# Altium integrated library Linear Technology Power Management System Supervisor, Monitor and Control.IntLib: 1611 symbols (part 22 of 100)
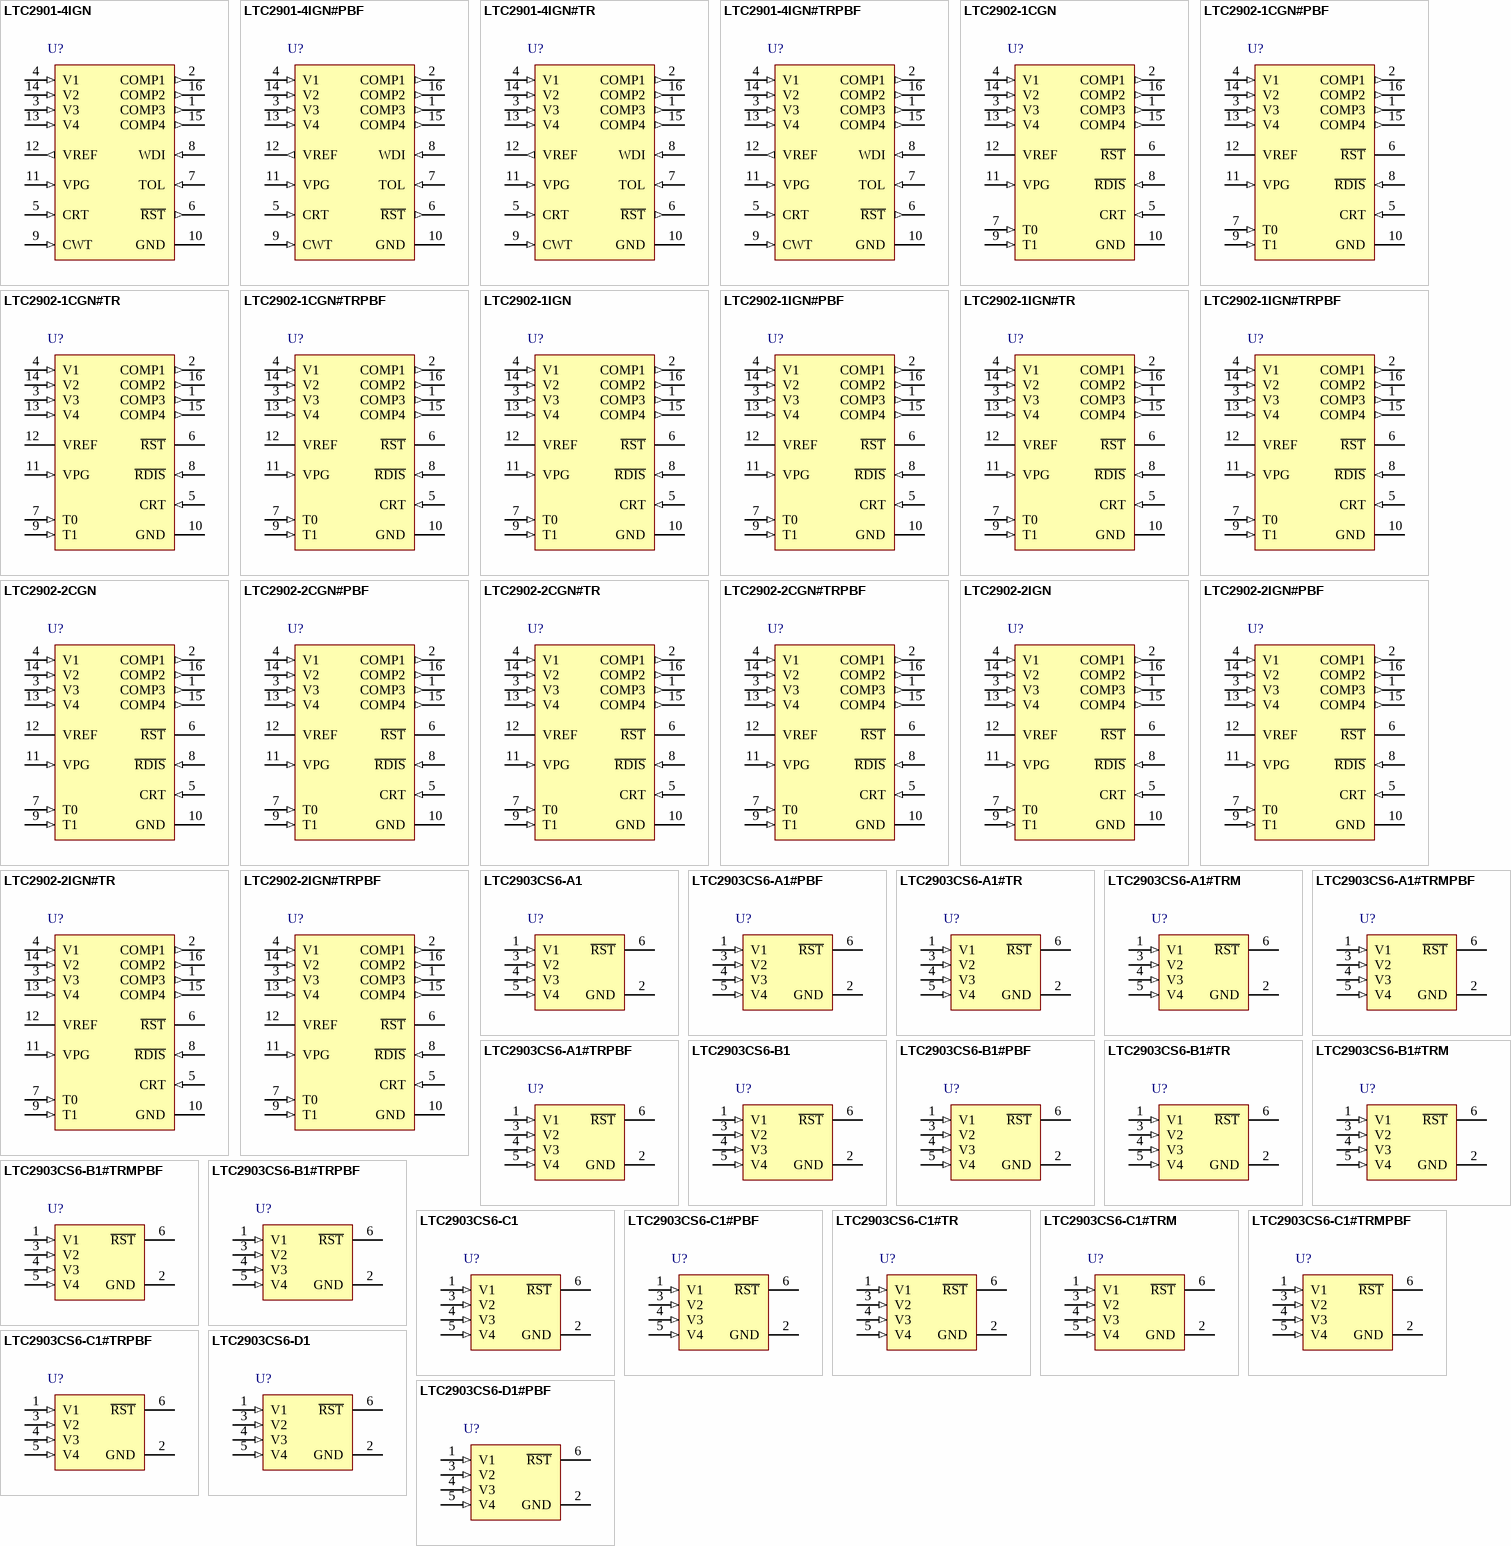
[diagram p66: symbols LTC2901-4IGN to LTC2903CS6-D1#PBF]

## LTC2903CS6-B1#TRPBF
designator U?
Precision Quad Supply Monitor, 6-pin SOT23 (S6-6), 0 to 70 degC, Pb-Free, Tape and Reel; Manufacturer: Linear Technology; PartNumber: LTC2903CS6-B1#TRPBF; Number of Supplies(#): 4; PackageVersion: Jun-10; PackageReference: S6-6; PackageDescription: 6-Pin Plastic TSOT-23, Body 2.9 x 1.63 mm, Pitch 0.95 mm; Supplier 1: Digi-Key; Supplier Part Number 1: LTC2903CS6-B1#TRPBF-ND; Packing: Tape and Reel; RoHS: TRUE; Mounting Technology: Surface Mount; Code_JEDEC: MO-193; ComponentLink1Description: Manufacturer URL; ComponentLink1URL: http://www.linear.com/; ComponentLink2Description: Datasheet; ComponentLink2URL: http://cds.linear.com/docs/en/datasheet/29031fa.pdf; ComponentLink3Description: Package Specification; ComponentLink3URL: http://cds.linear.com/docs/en/packaging/SOT_6_05-08-1636.pdf
footprint LT-S6-6-TSOT-23_N (SOT23, 6-Leads, Body 2.9x1.75mm, Pitch 0.95mm, IPC Medium Density)
footprint LT-S6-6-TSOT-23_L (SOT23, 6-Leads, Body 2.9x1.75mm, Pitch 0.95mm, IPC High Density)
footprint LT-S6-6-TSOT-23_M (SOT23, 6-Leads, Body 2.9x1.75mm, Pitch 0.95mm, IPC Low Density)
pins: 1 V1 (in) "Voltage Input 1. Internal VCC is generated from the greater voltage on the V1 and V2 inputs. VCC = V1 for options D1 and E1. Bypass this pin to ground with a 0.1uF (or greater) capacitor.", 2 GND (power) "Ground.", 3 V2 (in) "Voltage Input 2. Internal VCC is generated from the greater voltage on the V1 and V2 inputs. VCC = V1 for options D1 and E1. For option A1, B1, C1 bypass this pin to ground with a 0.1uF (or greater) capacitor. V2 is an (See Datasheet)", 4 V3 (in) "Voltage Input 3. This input assists the R\S\T\ pulldown circuitry below 1V (for options A1, B1 and C1 only). V3 is an adjustable input for options D1 and E1. See Table 1b for recommended ADJ resistor values.", 5 V4 (in) "Voltage Input 4. Table 1 lists the recommended ADJ resistor values for options A1, B1 and C1. See Table 1b for options D1 and E1.", 6 ~{RST} (oc) "Reset Logic Output. Pulls low when any voltage input is below reset threshold and held low for 200ms after all voltage inputs exceed threshold. The pin contains a weak pull-up to V2 (V1 for options D1 and E1). Use an (See Datasheet)"

## LTC2903CS6-C1
designator U?
Precision Quad Supply Monitor, 6-pin SOT23 (S6-6), 0 to 70 degC; Manufacturer: Linear Technology; PartNumber: LTC2903CS6-C1; Number of Supplies(#): 4; PackageVersion: Jun-10; PackageReference: S6-6; PackageDescription: 6-Pin Plastic TSOT-23, Body 2.9 x 1.63 mm, Pitch 0.95 mm; RoHS: FALSE; Mounting Technology: Surface Mount; Code_JEDEC: MO-193; ComponentLink1Description: Manufacturer URL; ComponentLink1URL: http://www.linear.com/; ComponentLink2Description: Datasheet; ComponentLink2URL: http://cds.linear.com/docs/en/datasheet/29031fa.pdf; ComponentLink3Description: Package Specification; ComponentLink3URL: http://cds.linear.com/docs/en/packaging/SOT_6_05-08-1636.pdf
footprint LT-S6-6-TSOT-23_N (SOT23, 6-Leads, Body 2.9x1.75mm, Pitch 0.95mm, IPC Medium Density)
footprint LT-S6-6-TSOT-23_L (SOT23, 6-Leads, Body 2.9x1.75mm, Pitch 0.95mm, IPC High Density)
footprint LT-S6-6-TSOT-23_M (SOT23, 6-Leads, Body 2.9x1.75mm, Pitch 0.95mm, IPC Low Density)
pins: 1 V1 (in) "Voltage Input 1. Internal VCC is generated from the greater voltage on the V1 and V2 inputs. VCC = V1 for options D1 and E1. Bypass this pin to ground with a 0.1uF (or greater) capacitor.", 2 GND (power) "Ground.", 3 V2 (in) "Voltage Input 2. Internal VCC is generated from the greater voltage on the V1 and V2 inputs. VCC = V1 for options D1 and E1. For option A1, B1, C1 bypass this pin to ground with a 0.1uF (or greater) capacitor. V2 is an (See Datasheet)", 4 V3 (in) "Voltage Input 3. This input assists the R\S\T\ pulldown circuitry below 1V (for options A1, B1 and C1 only). V3 is an adjustable input for options D1 and E1. See Table 1b for recommended ADJ resistor values.", 5 V4 (in) "Voltage Input 4. Table 1 lists the recommended ADJ resistor values for options A1, B1 and C1. See Table 1b for options D1 and E1.", 6 ~{RST} (oc) "Reset Logic Output. Pulls low when any voltage input is below reset threshold and held low for 200ms after all voltage inputs exceed threshold. The pin contains a weak pull-up to V2 (V1 for options D1 and E1). Use an (See Datasheet)"

## LTC2903CS6-C1#PBF
designator U?
Precision Quad Supply Monitor, 6-pin SOT23 (S6-6), 0 to 70 degC, Pb-Free; Manufacturer: Linear Technology; PartNumber: LTC2903CS6-C1#PBF; Number of Supplies(#): 4; PackageVersion: Jun-10; PackageReference: S6-6; PackageDescription: 6-Pin Plastic TSOT-23, Body 2.9 x 1.63 mm, Pitch 0.95 mm; RoHS: TRUE; Mounting Technology: Surface Mount; Code_JEDEC: MO-193; ComponentLink1Description: Manufacturer URL; ComponentLink1URL: http://www.linear.com/; ComponentLink2Description: Datasheet; ComponentLink2URL: http://cds.linear.com/docs/en/datasheet/29031fa.pdf; ComponentLink3Description: Package Specification; ComponentLink3URL: http://cds.linear.com/docs/en/packaging/SOT_6_05-08-1636.pdf
footprint LT-S6-6-TSOT-23_N (SOT23, 6-Leads, Body 2.9x1.75mm, Pitch 0.95mm, IPC Medium Density)
footprint LT-S6-6-TSOT-23_L (SOT23, 6-Leads, Body 2.9x1.75mm, Pitch 0.95mm, IPC High Density)
footprint LT-S6-6-TSOT-23_M (SOT23, 6-Leads, Body 2.9x1.75mm, Pitch 0.95mm, IPC Low Density)
pins: 1 V1 (in) "Voltage Input 1. Internal VCC is generated from the greater voltage on the V1 and V2 inputs. VCC = V1 for options D1 and E1. Bypass this pin to ground with a 0.1uF (or greater) capacitor.", 2 GND (power) "Ground.", 3 V2 (in) "Voltage Input 2. Internal VCC is generated from the greater voltage on the V1 and V2 inputs. VCC = V1 for options D1 and E1. For option A1, B1, C1 bypass this pin to ground with a 0.1uF (or greater) capacitor. V2 is an (See Datasheet)", 4 V3 (in) "Voltage Input 3. This input assists the R\S\T\ pulldown circuitry below 1V (for options A1, B1 and C1 only). V3 is an adjustable input for options D1 and E1. See Table 1b for recommended ADJ resistor values.", 5 V4 (in) "Voltage Input 4. Table 1 lists the recommended ADJ resistor values for options A1, B1 and C1. See Table 1b for options D1 and E1.", 6 ~{RST} (oc) "Reset Logic Output. Pulls low when any voltage input is below reset threshold and held low for 200ms after all voltage inputs exceed threshold. The pin contains a weak pull-up to V2 (V1 for options D1 and E1). Use an (See Datasheet)"

## LTC2903CS6-C1#TR
designator U?
Precision Quad Supply Monitor, 6-pin SOT23 (S6-6), 0 to 70 degC, Tape and Reel; Manufacturer: Linear Technology; PartNumber: LTC2903CS6-C1#TR; Number of Supplies(#): 4; PackageVersion: Jun-10; PackageReference: S6-6; PackageDescription: 6-Pin Plastic TSOT-23, Body 2.9 x 1.63 mm, Pitch 0.95 mm; Supplier 1: Digi-Key; Supplier Part Number 1: LTC2903CS6-C1#TR-ND; Packing: Tape and Reel; RoHS: FALSE; Mounting Technology: Surface Mount; Code_JEDEC: MO-193; ComponentLink1Description: Manufacturer URL; ComponentLink1URL: http://www.linear.com/; ComponentLink2Description: Datasheet; ComponentLink2URL: http://cds.linear.com/docs/en/datasheet/29031fa.pdf; ComponentLink3Description: Package Specification; ComponentLink3URL: http://cds.linear.com/docs/en/packaging/SOT_6_05-08-1636.pdf
footprint LT-S6-6-TSOT-23_N (SOT23, 6-Leads, Body 2.9x1.75mm, Pitch 0.95mm, IPC Medium Density)
footprint LT-S6-6-TSOT-23_L (SOT23, 6-Leads, Body 2.9x1.75mm, Pitch 0.95mm, IPC High Density)
footprint LT-S6-6-TSOT-23_M (SOT23, 6-Leads, Body 2.9x1.75mm, Pitch 0.95mm, IPC Low Density)
pins: 1 V1 (in) "Voltage Input 1. Internal VCC is generated from the greater voltage on the V1 and V2 inputs. VCC = V1 for options D1 and E1. Bypass this pin to ground with a 0.1uF (or greater) capacitor.", 2 GND (power) "Ground.", 3 V2 (in) "Voltage Input 2. Internal VCC is generated from the greater voltage on the V1 and V2 inputs. VCC = V1 for options D1 and E1. For option A1, B1, C1 bypass this pin to ground with a 0.1uF (or greater) capacitor. V2 is an (See Datasheet)", 4 V3 (in) "Voltage Input 3. This input assists the R\S\T\ pulldown circuitry below 1V (for options A1, B1 and C1 only). V3 is an adjustable input for options D1 and E1. See Table 1b for recommended ADJ resistor values.", 5 V4 (in) "Voltage Input 4. Table 1 lists the recommended ADJ resistor values for options A1, B1 and C1. See Table 1b for options D1 and E1.", 6 ~{RST} (oc) "Reset Logic Output. Pulls low when any voltage input is below reset threshold and held low for 200ms after all voltage inputs exceed threshold. The pin contains a weak pull-up to V2 (V1 for options D1 and E1). Use an (See Datasheet)"

## LTC2903CS6-C1#TRM
designator U?
Precision Quad Supply Monitor, 6-pin SOT23 (S6-6), 0 to 70 degC, Mini Tape and Reel; Manufacturer: Linear Technology; PartNumber: LTC2903CS6-C1#TRM; Number of Supplies(#): 4; PackageVersion: Jun-10; PackageReference: S6-6; PackageDescription: 6-Pin Plastic TSOT-23, Body 2.9 x 1.63 mm, Pitch 0.95 mm; Supplier 1: Digi-Key; Supplier Part Number 1: LTC2903CS6-C1#TRMTR-ND; Supplier 2: Digi-Key; Supplier Part Number 2: LTC2903CS6-C1#TRMCT-ND; Packing: Mini Tape and Reel; RoHS: FALSE; Mounting Technology: Surface Mount; Code_JEDEC: MO-193; ComponentLink1Description: Manufacturer URL; ComponentLink1URL: http://www.linear.com/; ComponentLink2Description: Datasheet; ComponentLink2URL: http://cds.linear.com/docs/en/datasheet/29031fa.pdf; ComponentLink3Description: Package Specification; ComponentLink3URL: http://cds.linear.com/docs/en/packaging/SOT_6_05-08-1636.pdf
footprint LT-S6-6-TSOT-23_N (SOT23, 6-Leads, Body 2.9x1.75mm, Pitch 0.95mm, IPC Medium Density)
footprint LT-S6-6-TSOT-23_L (SOT23, 6-Leads, Body 2.9x1.75mm, Pitch 0.95mm, IPC High Density)
footprint LT-S6-6-TSOT-23_M (SOT23, 6-Leads, Body 2.9x1.75mm, Pitch 0.95mm, IPC Low Density)
pins: 1 V1 (in) "Voltage Input 1. Internal VCC is generated from the greater voltage on the V1 and V2 inputs. VCC = V1 for options D1 and E1. Bypass this pin to ground with a 0.1uF (or greater) capacitor.", 2 GND (power) "Ground.", 3 V2 (in) "Voltage Input 2. Internal VCC is generated from the greater voltage on the V1 and V2 inputs. VCC = V1 for options D1 and E1. For option A1, B1, C1 bypass this pin to ground with a 0.1uF (or greater) capacitor. V2 is an (See Datasheet)", 4 V3 (in) "Voltage Input 3. This input assists the R\S\T\ pulldown circuitry below 1V (for options A1, B1 and C1 only). V3 is an adjustable input for options D1 and E1. See Table 1b for recommended ADJ resistor values.", 5 V4 (in) "Voltage Input 4. Table 1 lists the recommended ADJ resistor values for options A1, B1 and C1. See Table 1b for options D1 and E1.", 6 ~{RST} (oc) "Reset Logic Output. Pulls low when any voltage input is below reset threshold and held low for 200ms after all voltage inputs exceed threshold. The pin contains a weak pull-up to V2 (V1 for options D1 and E1). Use an (See Datasheet)"

## LTC2903CS6-C1#TRMPBF
designator U?
Precision Quad Supply Monitor, 6-pin SOT23 (S6-6), 0 to 70 degC, Pb-Free, Mini Tape and Reel; Manufacturer: Linear Technology; PartNumber: LTC2903CS6-C1#TRMPBF; Number of Supplies(#): 4; PackageVersion: Jun-10; PackageReference: S6-6; PackageDescription: 6-Pin Plastic TSOT-23, Body 2.9 x 1.63 mm, Pitch 0.95 mm; Supplier 1: Digi-Key; Supplier Part Number 1: LTC2903CS6-C1#TRMPBF-ND; Packing: Mini Tape and Reel; RoHS: TRUE; Mounting Technology: Surface Mount; Code_JEDEC: MO-193; ComponentLink1Description: Manufacturer URL; ComponentLink1URL: http://www.linear.com/; ComponentLink2Description: Datasheet; ComponentLink2URL: http://cds.linear.com/docs/en/datasheet/29031fa.pdf; ComponentLink3Description: Package Specification; ComponentLink3URL: http://cds.linear.com/docs/en/packaging/SOT_6_05-08-1636.pdf
footprint LT-S6-6-TSOT-23_N (SOT23, 6-Leads, Body 2.9x1.75mm, Pitch 0.95mm, IPC Medium Density)
footprint LT-S6-6-TSOT-23_L (SOT23, 6-Leads, Body 2.9x1.75mm, Pitch 0.95mm, IPC High Density)
footprint LT-S6-6-TSOT-23_M (SOT23, 6-Leads, Body 2.9x1.75mm, Pitch 0.95mm, IPC Low Density)
pins: 1 V1 (in) "Voltage Input 1. Internal VCC is generated from the greater voltage on the V1 and V2 inputs. VCC = V1 for options D1 and E1. Bypass this pin to ground with a 0.1uF (or greater) capacitor.", 2 GND (power) "Ground.", 3 V2 (in) "Voltage Input 2. Internal VCC is generated from the greater voltage on the V1 and V2 inputs. VCC = V1 for options D1 and E1. For option A1, B1, C1 bypass this pin to ground with a 0.1uF (or greater) capacitor. V2 is an (See Datasheet)", 4 V3 (in) "Voltage Input 3. This input assists the R\S\T\ pulldown circuitry below 1V (for options A1, B1 and C1 only). V3 is an adjustable input for options D1 and E1. See Table 1b for recommended ADJ resistor values.", 5 V4 (in) "Voltage Input 4. Table 1 lists the recommended ADJ resistor values for options A1, B1 and C1. See Table 1b for options D1 and E1.", 6 ~{RST} (oc) "Reset Logic Output. Pulls low when any voltage input is below reset threshold and held low for 200ms after all voltage inputs exceed threshold. The pin contains a weak pull-up to V2 (V1 for options D1 and E1). Use an (See Datasheet)"

## LTC2903CS6-C1#TRPBF
designator U?
Precision Quad Supply Monitor, 6-pin SOT23 (S6-6), 0 to 70 degC, Pb-Free, Tape and Reel; Manufacturer: Linear Technology; PartNumber: LTC2903CS6-C1#TRPBF; Number of Supplies(#): 4; PackageVersion: Jun-10; PackageReference: S6-6; PackageDescription: 6-Pin Plastic TSOT-23, Body 2.9 x 1.63 mm, Pitch 0.95 mm; Supplier 1: Digi-Key; Supplier Part Number 1: LTC2903CS6-C1#TRPBF-ND; Packing: Tape and Reel; RoHS: TRUE; Mounting Technology: Surface Mount; Code_JEDEC: MO-193; ComponentLink1Description: Manufacturer URL; ComponentLink1URL: http://www.linear.com/; ComponentLink2Description: Datasheet; ComponentLink2URL: http://cds.linear.com/docs/en/datasheet/29031fa.pdf; ComponentLink3Description: Package Specification; ComponentLink3URL: http://cds.linear.com/docs/en/packaging/SOT_6_05-08-1636.pdf
footprint LT-S6-6-TSOT-23_N (SOT23, 6-Leads, Body 2.9x1.75mm, Pitch 0.95mm, IPC Medium Density)
footprint LT-S6-6-TSOT-23_L (SOT23, 6-Leads, Body 2.9x1.75mm, Pitch 0.95mm, IPC High Density)
footprint LT-S6-6-TSOT-23_M (SOT23, 6-Leads, Body 2.9x1.75mm, Pitch 0.95mm, IPC Low Density)
pins: 1 V1 (in) "Voltage Input 1. Internal VCC is generated from the greater voltage on the V1 and V2 inputs. VCC = V1 for options D1 and E1. Bypass this pin to ground with a 0.1uF (or greater) capacitor.", 2 GND (power) "Ground.", 3 V2 (in) "Voltage Input 2. Internal VCC is generated from the greater voltage on the V1 and V2 inputs. VCC = V1 for options D1 and E1. For option A1, B1, C1 bypass this pin to ground with a 0.1uF (or greater) capacitor. V2 is an (See Datasheet)", 4 V3 (in) "Voltage Input 3. This input assists the R\S\T\ pulldown circuitry below 1V (for options A1, B1 and C1 only). V3 is an adjustable input for options D1 and E1. See Table 1b for recommended ADJ resistor values.", 5 V4 (in) "Voltage Input 4. Table 1 lists the recommended ADJ resistor values for options A1, B1 and C1. See Table 1b for options D1 and E1.", 6 ~{RST} (oc) "Reset Logic Output. Pulls low when any voltage input is below reset threshold and held low for 200ms after all voltage inputs exceed threshold. The pin contains a weak pull-up to V2 (V1 for options D1 and E1). Use an (See Datasheet)"

## LTC2903CS6-D1
designator U?
Precision Quad Supply Monitor, 6-pin SOT23 (S6-6), 0 to 70 degC; Manufacturer: Linear Technology; PartNumber: LTC2903CS6-D1; Number of Supplies(#): 4; PackageVersion: Jun-10; PackageReference: S6-6; PackageDescription: 6-Pin Plastic TSOT-23, Body 2.9 x 1.63 mm, Pitch 0.95 mm; RoHS: FALSE; Mounting Technology: Surface Mount; Code_JEDEC: MO-193; ComponentLink1Description: Manufacturer URL; ComponentLink1URL: http://www.linear.com/; ComponentLink2Description: Datasheet; ComponentLink2URL: http://cds.linear.com/docs/en/datasheet/29031fa.pdf; ComponentLink3Description: Package Specification; ComponentLink3URL: http://cds.linear.com/docs/en/packaging/SOT_6_05-08-1636.pdf
footprint LT-S6-6-TSOT-23_N (SOT23, 6-Leads, Body 2.9x1.75mm, Pitch 0.95mm, IPC Medium Density)
footprint LT-S6-6-TSOT-23_L (SOT23, 6-Leads, Body 2.9x1.75mm, Pitch 0.95mm, IPC High Density)
footprint LT-S6-6-TSOT-23_M (SOT23, 6-Leads, Body 2.9x1.75mm, Pitch 0.95mm, IPC Low Density)
pins: 1 V1 (in) "Voltage Input 1. Internal VCC is generated from the greater voltage on the V1 and V2 inputs. VCC = V1 for options D1 and E1. Bypass this pin to ground with a 0.1uF (or greater) capacitor.", 2 GND (power) "Ground.", 3 V2 (in) "Voltage Input 2. Internal VCC is generated from the greater voltage on the V1 and V2 inputs. VCC = V1 for options D1 and E1. For option A1, B1, C1 bypass this pin to ground with a 0.1uF (or greater) capacitor. V2 is an (See Datasheet)", 4 V3 (in) "Voltage Input 3. This input assists the R\S\T\ pulldown circuitry below 1V (for options A1, B1 and C1 only). V3 is an adjustable input for options D1 and E1. See Table 1b for recommended ADJ resistor values.", 5 V4 (in) "Voltage Input 4. Table 1 lists the recommended ADJ resistor values for options A1, B1 and C1. See Table 1b for options D1 and E1.", 6 ~{RST} (oc) "Reset Logic Output. Pulls low when any voltage input is below reset threshold and held low for 200ms after all voltage inputs exceed threshold. The pin contains a weak pull-up to V2 (V1 for options D1 and E1). Use an (See Datasheet)"

## LTC2903CS6-D1#PBF
designator U?
Precision Quad Supply Monitor, 6-pin SOT23 (S6-6), 0 to 70 degC, Pb-Free; Manufacturer: Linear Technology; PartNumber: LTC2903CS6-D1#PBF; Number of Supplies(#): 4; PackageVersion: Jun-10; PackageReference: S6-6; PackageDescription: 6-Pin Plastic TSOT-23, Body 2.9 x 1.63 mm, Pitch 0.95 mm; Supplier 1: Farnell; Supplier Part Number 1: 2308112; Supplier 2: Newark; Supplier Part Number 2: 78T2988; RoHS: TRUE; Mounting Technology: Surface Mount; Code_JEDEC: MO-193; ComponentLink1Description: Manufacturer URL; ComponentLink1URL: http://www.linear.com/; ComponentLink2Description: Datasheet; ComponentLink2URL: http://cds.linear.com/docs/en/datasheet/29031fa.pdf; ComponentLink3Description: Package Specification; ComponentLink3URL: http://cds.linear.com/docs/en/packaging/SOT_6_05-08-1636.pdf
footprint LT-S6-6-TSOT-23_N (SOT23, 6-Leads, Body 2.9x1.75mm, Pitch 0.95mm, IPC Medium Density)
footprint LT-S6-6-TSOT-23_L (SOT23, 6-Leads, Body 2.9x1.75mm, Pitch 0.95mm, IPC High Density)
footprint LT-S6-6-TSOT-23_M (SOT23, 6-Leads, Body 2.9x1.75mm, Pitch 0.95mm, IPC Low Density)
pins: 1 V1 (in) "Voltage Input 1. Internal VCC is generated from the greater voltage on the V1 and V2 inputs. VCC = V1 for options D1 and E1. Bypass this pin to ground with a 0.1uF (or greater) capacitor.", 2 GND (power) "Ground.", 3 V2 (in) "Voltage Input 2. Internal VCC is generated from the greater voltage on the V1 and V2 inputs. VCC = V1 for options D1 and E1. For option A1, B1, C1 bypass this pin to ground with a 0.1uF (or greater) capacitor. V2 is an (See Datasheet)", 4 V3 (in) "Voltage Input 3. This input assists the R\S\T\ pulldown circuitry below 1V (for options A1, B1 and C1 only). V3 is an adjustable input for options D1 and E1. See Table 1b for recommended ADJ resistor values.", 5 V4 (in) "Voltage Input 4. Table 1 lists the recommended ADJ resistor values for options A1, B1 and C1. See Table 1b for options D1 and E1.", 6 ~{RST} (oc) "Reset Logic Output. Pulls low when any voltage input is below reset threshold and held low for 200ms after all voltage inputs exceed threshold. The pin contains a weak pull-up to V2 (V1 for options D1 and E1). Use an (See Datasheet)"

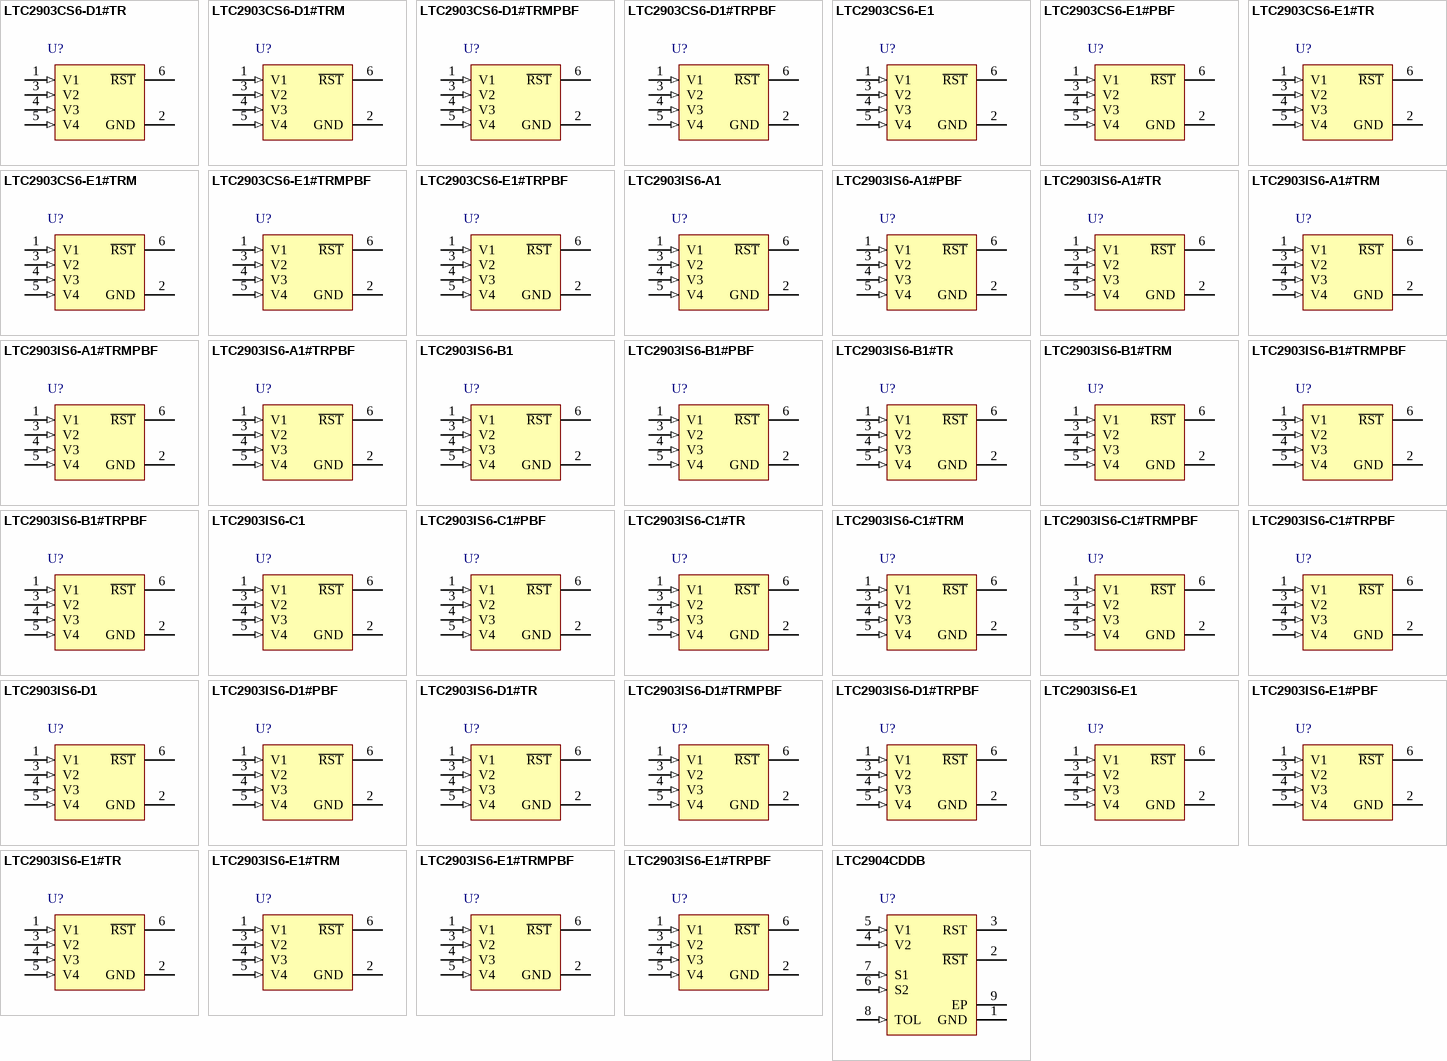
[diagram p11: symbols LTC2903CS6-D1#TR to LTC2904CDDB]

## LTC2903CS6-D1#TR
designator U?
Precision Quad Supply Monitor, 6-pin SOT23 (S6-6), 0 to 70 degC, Tape and Reel; Manufacturer: Linear Technology; PartNumber: LTC2903CS6-D1#TR; Number of Supplies(#): 4; PackageVersion: Jun-10; PackageReference: S6-6; PackageDescription: 6-Pin Plastic TSOT-23, Body 2.9 x 1.63 mm, Pitch 0.95 mm; Packing: Tape and Reel; RoHS: FALSE; Mounting Technology: Surface Mount; Code_JEDEC: MO-193; ComponentLink1Description: Manufacturer URL; ComponentLink1URL: http://www.linear.com/; ComponentLink2Description: Datasheet; ComponentLink2URL: http://cds.linear.com/docs/en/datasheet/29031fa.pdf; ComponentLink3Description: Package Specification; ComponentLink3URL: http://cds.linear.com/docs/en/packaging/SOT_6_05-08-1636.pdf
footprint LT-S6-6-TSOT-23_N (SOT23, 6-Leads, Body 2.9x1.75mm, Pitch 0.95mm, IPC Medium Density)
footprint LT-S6-6-TSOT-23_L (SOT23, 6-Leads, Body 2.9x1.75mm, Pitch 0.95mm, IPC High Density)
footprint LT-S6-6-TSOT-23_M (SOT23, 6-Leads, Body 2.9x1.75mm, Pitch 0.95mm, IPC Low Density)
pins: 1 V1 (in) "Voltage Input 1. Internal VCC is generated from the greater voltage on the V1 and V2 inputs. VCC = V1 for options D1 and E1. Bypass this pin to ground with a 0.1uF (or greater) capacitor.", 2 GND (power) "Ground.", 3 V2 (in) "Voltage Input 2. Internal VCC is generated from the greater voltage on the V1 and V2 inputs. VCC = V1 for options D1 and E1. For option A1, B1, C1 bypass this pin to ground with a 0.1uF (or greater) capacitor. V2 is an (See Datasheet)", 4 V3 (in) "Voltage Input 3. This input assists the R\S\T\ pulldown circuitry below 1V (for options A1, B1 and C1 only). V3 is an adjustable input for options D1 and E1. See Table 1b for recommended ADJ resistor values.", 5 V4 (in) "Voltage Input 4. Table 1 lists the recommended ADJ resistor values for options A1, B1 and C1. See Table 1b for options D1 and E1.", 6 ~{RST} (oc) "Reset Logic Output. Pulls low when any voltage input is below reset threshold and held low for 200ms after all voltage inputs exceed threshold. The pin contains a weak pull-up to V2 (V1 for options D1 and E1). Use an (See Datasheet)"

## LTC2903CS6-D1#TRM
designator U?
Precision Quad Supply Monitor, 6-pin SOT23 (S6-6), 0 to 70 degC, Mini Tape and Reel; Manufacturer: Linear Technology; PartNumber: LTC2903CS6-D1#TRM; Number of Supplies(#): 4; PackageVersion: Jun-10; PackageReference: S6-6; PackageDescription: 6-Pin Plastic TSOT-23, Body 2.9 x 1.63 mm, Pitch 0.95 mm; Packing: Mini Tape and Reel; RoHS: FALSE; Mounting Technology: Surface Mount; Code_JEDEC: MO-193; ComponentLink1Description: Manufacturer URL; ComponentLink1URL: http://www.linear.com/; ComponentLink2Description: Datasheet; ComponentLink2URL: http://cds.linear.com/docs/en/datasheet/29031fa.pdf; ComponentLink3Description: Package Specification; ComponentLink3URL: http://cds.linear.com/docs/en/packaging/SOT_6_05-08-1636.pdf
footprint LT-S6-6-TSOT-23_N (SOT23, 6-Leads, Body 2.9x1.75mm, Pitch 0.95mm, IPC Medium Density)
footprint LT-S6-6-TSOT-23_L (SOT23, 6-Leads, Body 2.9x1.75mm, Pitch 0.95mm, IPC High Density)
footprint LT-S6-6-TSOT-23_M (SOT23, 6-Leads, Body 2.9x1.75mm, Pitch 0.95mm, IPC Low Density)
pins: 1 V1 (in) "Voltage Input 1. Internal VCC is generated from the greater voltage on the V1 and V2 inputs. VCC = V1 for options D1 and E1. Bypass this pin to ground with a 0.1uF (or greater) capacitor.", 2 GND (power) "Ground.", 3 V2 (in) "Voltage Input 2. Internal VCC is generated from the greater voltage on the V1 and V2 inputs. VCC = V1 for options D1 and E1. For option A1, B1, C1 bypass this pin to ground with a 0.1uF (or greater) capacitor. V2 is an (See Datasheet)", 4 V3 (in) "Voltage Input 3. This input assists the R\S\T\ pulldown circuitry below 1V (for options A1, B1 and C1 only). V3 is an adjustable input for options D1 and E1. See Table 1b for recommended ADJ resistor values.", 5 V4 (in) "Voltage Input 4. Table 1 lists the recommended ADJ resistor values for options A1, B1 and C1. See Table 1b for options D1 and E1.", 6 ~{RST} (oc) "Reset Logic Output. Pulls low when any voltage input is below reset threshold and held low for 200ms after all voltage inputs exceed threshold. The pin contains a weak pull-up to V2 (V1 for options D1 and E1). Use an (See Datasheet)"

## LTC2903CS6-D1#TRMPBF
designator U?
Precision Quad Supply Monitor, 6-pin SOT23 (S6-6), 0 to 70 degC, Pb-Free, Mini Tape and Reel; Manufacturer: Linear Technology; PartNumber: LTC2903CS6-D1#TRMPBF; Number of Supplies(#): 4; PackageVersion: Jun-10; PackageReference: S6-6; PackageDescription: 6-Pin Plastic TSOT-23, Body 2.9 x 1.63 mm, Pitch 0.95 mm; Supplier 1: Digi-Key; Supplier Part Number 1: LTC2903CS6-D1#TRMPBFTR-ND; Supplier 2: Digi-Key; Supplier Part Number 2: LTC2903CS6-D1#TRMPBFCT-ND; Supplier 3: Digi-Key; Supplier Part Number 3: LTC2903CS6-D1#TRMPBFDKR-ND; Supplier 4: Farnell; Supplier Part Number 4: 1663879; Supplier 5: Newark; Supplier Part Number 5: 56M6633; Packing: Mini Tape and Reel; RoHS: TRUE; Mounting Technology: Surface Mount; Code_JEDEC: MO-193; ComponentLink1Description: Manufacturer URL; ComponentLink1URL: http://www.linear.com/; ComponentLink2Description: Datasheet; ComponentLink2URL: http://cds.linear.com/docs/en/datasheet/29031fa.pdf; ComponentLink3Description: Package Specification; ComponentLink3URL: http://cds.linear.com/docs/en/packaging/SOT_6_05-08-1636.pdf
footprint LT-S6-6-TSOT-23_N (SOT23, 6-Leads, Body 2.9x1.75mm, Pitch 0.95mm, IPC Medium Density)
footprint LT-S6-6-TSOT-23_L (SOT23, 6-Leads, Body 2.9x1.75mm, Pitch 0.95mm, IPC High Density)
footprint LT-S6-6-TSOT-23_M (SOT23, 6-Leads, Body 2.9x1.75mm, Pitch 0.95mm, IPC Low Density)
pins: 1 V1 (in) "Voltage Input 1. Internal VCC is generated from the greater voltage on the V1 and V2 inputs. VCC = V1 for options D1 and E1. Bypass this pin to ground with a 0.1uF (or greater) capacitor.", 2 GND (power) "Ground.", 3 V2 (in) "Voltage Input 2. Internal VCC is generated from the greater voltage on the V1 and V2 inputs. VCC = V1 for options D1 and E1. For option A1, B1, C1 bypass this pin to ground with a 0.1uF (or greater) capacitor. V2 is an (See Datasheet)", 4 V3 (in) "Voltage Input 3. This input assists the R\S\T\ pulldown circuitry below 1V (for options A1, B1 and C1 only). V3 is an adjustable input for options D1 and E1. See Table 1b for recommended ADJ resistor values.", 5 V4 (in) "Voltage Input 4. Table 1 lists the recommended ADJ resistor values for options A1, B1 and C1. See Table 1b for options D1 and E1.", 6 ~{RST} (oc) "Reset Logic Output. Pulls low when any voltage input is below reset threshold and held low for 200ms after all voltage inputs exceed threshold. The pin contains a weak pull-up to V2 (V1 for options D1 and E1). Use an (See Datasheet)"

## LTC2903CS6-D1#TRPBF
designator U?
Precision Quad Supply Monitor, 6-pin SOT23 (S6-6), 0 to 70 degC, Pb-Free, Tape and Reel; Manufacturer: Linear Technology; PartNumber: LTC2903CS6-D1#TRPBF; Number of Supplies(#): 4; PackageVersion: Jun-10; PackageReference: S6-6; PackageDescription: 6-Pin Plastic TSOT-23, Body 2.9 x 1.63 mm, Pitch 0.95 mm; Supplier 1: Digi-Key; Supplier Part Number 1: LTC2903CS6-D1#TRPBF-ND; Supplier 2: Newark; Supplier Part Number 2: 56M6634; Packing: Tape and Reel; RoHS: TRUE; Mounting Technology: Surface Mount; Code_JEDEC: MO-193; ComponentLink1Description: Manufacturer URL; ComponentLink1URL: http://www.linear.com/; ComponentLink2Description: Datasheet; ComponentLink2URL: http://cds.linear.com/docs/en/datasheet/29031fa.pdf; ComponentLink3Description: Package Specification; ComponentLink3URL: http://cds.linear.com/docs/en/packaging/SOT_6_05-08-1636.pdf
footprint LT-S6-6-TSOT-23_N (SOT23, 6-Leads, Body 2.9x1.75mm, Pitch 0.95mm, IPC Medium Density)
footprint LT-S6-6-TSOT-23_L (SOT23, 6-Leads, Body 2.9x1.75mm, Pitch 0.95mm, IPC High Density)
footprint LT-S6-6-TSOT-23_M (SOT23, 6-Leads, Body 2.9x1.75mm, Pitch 0.95mm, IPC Low Density)
pins: 1 V1 (in) "Voltage Input 1. Internal VCC is generated from the greater voltage on the V1 and V2 inputs. VCC = V1 for options D1 and E1. Bypass this pin to ground with a 0.1uF (or greater) capacitor.", 2 GND (power) "Ground.", 3 V2 (in) "Voltage Input 2. Internal VCC is generated from the greater voltage on the V1 and V2 inputs. VCC = V1 for options D1 and E1. For option A1, B1, C1 bypass this pin to ground with a 0.1uF (or greater) capacitor. V2 is an (See Datasheet)", 4 V3 (in) "Voltage Input 3. This input assists the R\S\T\ pulldown circuitry below 1V (for options A1, B1 and C1 only). V3 is an adjustable input for options D1 and E1. See Table 1b for recommended ADJ resistor values.", 5 V4 (in) "Voltage Input 4. Table 1 lists the recommended ADJ resistor values for options A1, B1 and C1. See Table 1b for options D1 and E1.", 6 ~{RST} (oc) "Reset Logic Output. Pulls low when any voltage input is below reset threshold and held low for 200ms after all voltage inputs exceed threshold. The pin contains a weak pull-up to V2 (V1 for options D1 and E1). Use an (See Datasheet)"

## LTC2903CS6-E1
designator U?
Precision Quad Supply Monitor, 6-pin SOT23 (S6-6), 0 to 70 degC; Manufacturer: Linear Technology; PartNumber: LTC2903CS6-E1; Number of Supplies(#): 4; PackageVersion: Jun-10; PackageReference: S6-6; PackageDescription: 6-Pin Plastic TSOT-23, Body 2.9 x 1.63 mm, Pitch 0.95 mm; RoHS: FALSE; Mounting Technology: Surface Mount; Code_JEDEC: MO-193; ComponentLink1Description: Manufacturer URL; ComponentLink1URL: http://www.linear.com/; ComponentLink2Description: Datasheet; ComponentLink2URL: http://cds.linear.com/docs/en/datasheet/29031fa.pdf; ComponentLink3Description: Package Specification; ComponentLink3URL: http://cds.linear.com/docs/en/packaging/SOT_6_05-08-1636.pdf
footprint LT-S6-6-TSOT-23_N (SOT23, 6-Leads, Body 2.9x1.75mm, Pitch 0.95mm, IPC Medium Density)
footprint LT-S6-6-TSOT-23_L (SOT23, 6-Leads, Body 2.9x1.75mm, Pitch 0.95mm, IPC High Density)
footprint LT-S6-6-TSOT-23_M (SOT23, 6-Leads, Body 2.9x1.75mm, Pitch 0.95mm, IPC Low Density)
pins: 1 V1 (in) "Voltage Input 1. Internal VCC is generated from the greater voltage on the V1 and V2 inputs. VCC = V1 for options D1 and E1. Bypass this pin to ground with a 0.1uF (or greater) capacitor.", 2 GND (power) "Ground.", 3 V2 (in) "Voltage Input 2. Internal VCC is generated from the greater voltage on the V1 and V2 inputs. VCC = V1 for options D1 and E1. For option A1, B1, C1 bypass this pin to ground with a 0.1uF (or greater) capacitor. V2 is an (See Datasheet)", 4 V3 (in) "Voltage Input 3. This input assists the R\S\T\ pulldown circuitry below 1V (for options A1, B1 and C1 only). V3 is an adjustable input for options D1 and E1. See Table 1b for recommended ADJ resistor values.", 5 V4 (in) "Voltage Input 4. Table 1 lists the recommended ADJ resistor values for options A1, B1 and C1. See Table 1b for options D1 and E1.", 6 ~{RST} (oc) "Reset Logic Output. Pulls low when any voltage input is below reset threshold and held low for 200ms after all voltage inputs exceed threshold. The pin contains a weak pull-up to V2 (V1 for options D1 and E1). Use an (See Datasheet)"

## LTC2903CS6-E1#PBF
designator U?
Precision Quad Supply Monitor, 6-pin SOT23 (S6-6), 0 to 70 degC, Pb-Free; Manufacturer: Linear Technology; PartNumber: LTC2903CS6-E1#PBF; Number of Supplies(#): 4; PackageVersion: Jun-10; PackageReference: S6-6; PackageDescription: 6-Pin Plastic TSOT-23, Body 2.9 x 1.63 mm, Pitch 0.95 mm; RoHS: TRUE; Mounting Technology: Surface Mount; Code_JEDEC: MO-193; ComponentLink1Description: Manufacturer URL; ComponentLink1URL: http://www.linear.com/; ComponentLink2Description: Datasheet; ComponentLink2URL: http://cds.linear.com/docs/en/datasheet/29031fa.pdf; ComponentLink3Description: Package Specification; ComponentLink3URL: http://cds.linear.com/docs/en/packaging/SOT_6_05-08-1636.pdf
footprint LT-S6-6-TSOT-23_N (SOT23, 6-Leads, Body 2.9x1.75mm, Pitch 0.95mm, IPC Medium Density)
footprint LT-S6-6-TSOT-23_L (SOT23, 6-Leads, Body 2.9x1.75mm, Pitch 0.95mm, IPC High Density)
footprint LT-S6-6-TSOT-23_M (SOT23, 6-Leads, Body 2.9x1.75mm, Pitch 0.95mm, IPC Low Density)
pins: 1 V1 (in) "Voltage Input 1. Internal VCC is generated from the greater voltage on the V1 and V2 inputs. VCC = V1 for options D1 and E1. Bypass this pin to ground with a 0.1uF (or greater) capacitor.", 2 GND (power) "Ground.", 3 V2 (in) "Voltage Input 2. Internal VCC is generated from the greater voltage on the V1 and V2 inputs. VCC = V1 for options D1 and E1. For option A1, B1, C1 bypass this pin to ground with a 0.1uF (or greater) capacitor. V2 is an (See Datasheet)", 4 V3 (in) "Voltage Input 3. This input assists the R\S\T\ pulldown circuitry below 1V (for options A1, B1 and C1 only). V3 is an adjustable input for options D1 and E1. See Table 1b for recommended ADJ resistor values.", 5 V4 (in) "Voltage Input 4. Table 1 lists the recommended ADJ resistor values for options A1, B1 and C1. See Table 1b for options D1 and E1.", 6 ~{RST} (oc) "Reset Logic Output. Pulls low when any voltage input is below reset threshold and held low for 200ms after all voltage inputs exceed threshold. The pin contains a weak pull-up to V2 (V1 for options D1 and E1). Use an (See Datasheet)"

## LTC2903CS6-E1#TR
designator U?
Precision Quad Supply Monitor, 6-pin SOT23 (S6-6), 0 to 70 degC, Tape and Reel; Manufacturer: Linear Technology; PartNumber: LTC2903CS6-E1#TR; Number of Supplies(#): 4; PackageVersion: Jun-10; PackageReference: S6-6; PackageDescription: 6-Pin Plastic TSOT-23, Body 2.9 x 1.63 mm, Pitch 0.95 mm; Packing: Tape and Reel; RoHS: FALSE; Mounting Technology: Surface Mount; Code_JEDEC: MO-193; ComponentLink1Description: Manufacturer URL; ComponentLink1URL: http://www.linear.com/; ComponentLink2Description: Datasheet; ComponentLink2URL: http://cds.linear.com/docs/en/datasheet/29031fa.pdf; ComponentLink3Description: Package Specification; ComponentLink3URL: http://cds.linear.com/docs/en/packaging/SOT_6_05-08-1636.pdf
footprint LT-S6-6-TSOT-23_N (SOT23, 6-Leads, Body 2.9x1.75mm, Pitch 0.95mm, IPC Medium Density)
footprint LT-S6-6-TSOT-23_L (SOT23, 6-Leads, Body 2.9x1.75mm, Pitch 0.95mm, IPC High Density)
footprint LT-S6-6-TSOT-23_M (SOT23, 6-Leads, Body 2.9x1.75mm, Pitch 0.95mm, IPC Low Density)
pins: 1 V1 (in) "Voltage Input 1. Internal VCC is generated from the greater voltage on the V1 and V2 inputs. VCC = V1 for options D1 and E1. Bypass this pin to ground with a 0.1uF (or greater) capacitor.", 2 GND (power) "Ground.", 3 V2 (in) "Voltage Input 2. Internal VCC is generated from the greater voltage on the V1 and V2 inputs. VCC = V1 for options D1 and E1. For option A1, B1, C1 bypass this pin to ground with a 0.1uF (or greater) capacitor. V2 is an (See Datasheet)", 4 V3 (in) "Voltage Input 3. This input assists the R\S\T\ pulldown circuitry below 1V (for options A1, B1 and C1 only). V3 is an adjustable input for options D1 and E1. See Table 1b for recommended ADJ resistor values.", 5 V4 (in) "Voltage Input 4. Table 1 lists the recommended ADJ resistor values for options A1, B1 and C1. See Table 1b for options D1 and E1.", 6 ~{RST} (oc) "Reset Logic Output. Pulls low when any voltage input is below reset threshold and held low for 200ms after all voltage inputs exceed threshold. The pin contains a weak pull-up to V2 (V1 for options D1 and E1). Use an (See Datasheet)"

## LTC2903CS6-E1#TRM
designator U?
Precision Quad Supply Monitor, 6-pin SOT23 (S6-6), 0 to 70 degC, Mini Tape and Reel; Manufacturer: Linear Technology; PartNumber: LTC2903CS6-E1#TRM; Number of Supplies(#): 4; PackageVersion: Jun-10; PackageReference: S6-6; PackageDescription: 6-Pin Plastic TSOT-23, Body 2.9 x 1.63 mm, Pitch 0.95 mm; Packing: Mini Tape and Reel; RoHS: FALSE; Mounting Technology: Surface Mount; Code_JEDEC: MO-193; ComponentLink1Description: Manufacturer URL; ComponentLink1URL: http://www.linear.com/; ComponentLink2Description: Datasheet; ComponentLink2URL: http://cds.linear.com/docs/en/datasheet/29031fa.pdf; ComponentLink3Description: Package Specification; ComponentLink3URL: http://cds.linear.com/docs/en/packaging/SOT_6_05-08-1636.pdf
footprint LT-S6-6-TSOT-23_N (SOT23, 6-Leads, Body 2.9x1.75mm, Pitch 0.95mm, IPC Medium Density)
footprint LT-S6-6-TSOT-23_L (SOT23, 6-Leads, Body 2.9x1.75mm, Pitch 0.95mm, IPC High Density)
footprint LT-S6-6-TSOT-23_M (SOT23, 6-Leads, Body 2.9x1.75mm, Pitch 0.95mm, IPC Low Density)
pins: 1 V1 (in) "Voltage Input 1. Internal VCC is generated from the greater voltage on the V1 and V2 inputs. VCC = V1 for options D1 and E1. Bypass this pin to ground with a 0.1uF (or greater) capacitor.", 2 GND (power) "Ground.", 3 V2 (in) "Voltage Input 2. Internal VCC is generated from the greater voltage on the V1 and V2 inputs. VCC = V1 for options D1 and E1. For option A1, B1, C1 bypass this pin to ground with a 0.1uF (or greater) capacitor. V2 is an (See Datasheet)", 4 V3 (in) "Voltage Input 3. This input assists the R\S\T\ pulldown circuitry below 1V (for options A1, B1 and C1 only). V3 is an adjustable input for options D1 and E1. See Table 1b for recommended ADJ resistor values.", 5 V4 (in) "Voltage Input 4. Table 1 lists the recommended ADJ resistor values for options A1, B1 and C1. See Table 1b for options D1 and E1.", 6 ~{RST} (oc) "Reset Logic Output. Pulls low when any voltage input is below reset threshold and held low for 200ms after all voltage inputs exceed threshold. The pin contains a weak pull-up to V2 (V1 for options D1 and E1). Use an (See Datasheet)"

## LTC2903CS6-E1#TRMPBF
designator U?
Precision Quad Supply Monitor, 6-pin SOT23 (S6-6), 0 to 70 degC, Pb-Free, Mini Tape and Reel; Manufacturer: Linear Technology; PartNumber: LTC2903CS6-E1#TRMPBF; Number of Supplies(#): 4; PackageVersion: Jun-10; PackageReference: S6-6; PackageDescription: 6-Pin Plastic TSOT-23, Body 2.9 x 1.63 mm, Pitch 0.95 mm; Supplier 1: Digi-Key; Supplier Part Number 1: LTC2903CS6-E1#TRMPBF-ND; Packing: Mini Tape and Reel; RoHS: TRUE; Mounting Technology: Surface Mount; Code_JEDEC: MO-193; ComponentLink1Description: Manufacturer URL; ComponentLink1URL: http://www.linear.com/; ComponentLink2Description: Datasheet; ComponentLink2URL: http://cds.linear.com/docs/en/datasheet/29031fa.pdf; ComponentLink3Description: Package Specification; ComponentLink3URL: http://cds.linear.com/docs/en/packaging/SOT_6_05-08-1636.pdf
footprint LT-S6-6-TSOT-23_N (SOT23, 6-Leads, Body 2.9x1.75mm, Pitch 0.95mm, IPC Medium Density)
footprint LT-S6-6-TSOT-23_L (SOT23, 6-Leads, Body 2.9x1.75mm, Pitch 0.95mm, IPC High Density)
footprint LT-S6-6-TSOT-23_M (SOT23, 6-Leads, Body 2.9x1.75mm, Pitch 0.95mm, IPC Low Density)
pins: 1 V1 (in) "Voltage Input 1. Internal VCC is generated from the greater voltage on the V1 and V2 inputs. VCC = V1 for options D1 and E1. Bypass this pin to ground with a 0.1uF (or greater) capacitor.", 2 GND (power) "Ground.", 3 V2 (in) "Voltage Input 2. Internal VCC is generated from the greater voltage on the V1 and V2 inputs. VCC = V1 for options D1 and E1. For option A1, B1, C1 bypass this pin to ground with a 0.1uF (or greater) capacitor. V2 is an (See Datasheet)", 4 V3 (in) "Voltage Input 3. This input assists the R\S\T\ pulldown circuitry below 1V (for options A1, B1 and C1 only). V3 is an adjustable input for options D1 and E1. See Table 1b for recommended ADJ resistor values.", 5 V4 (in) "Voltage Input 4. Table 1 lists the recommended ADJ resistor values for options A1, B1 and C1. See Table 1b for options D1 and E1.", 6 ~{RST} (oc) "Reset Logic Output. Pulls low when any voltage input is below reset threshold and held low for 200ms after all voltage inputs exceed threshold. The pin contains a weak pull-up to V2 (V1 for options D1 and E1). Use an (See Datasheet)"

## LTC2903CS6-E1#TRPBF
designator U?
Precision Quad Supply Monitor, 6-pin SOT23 (S6-6), 0 to 70 degC, Pb-Free, Tape and Reel; Manufacturer: Linear Technology; PartNumber: LTC2903CS6-E1#TRPBF; Number of Supplies(#): 4; PackageVersion: Jun-10; PackageReference: S6-6; PackageDescription: 6-Pin Plastic TSOT-23, Body 2.9 x 1.63 mm, Pitch 0.95 mm; Supplier 1: Digi-Key; Supplier Part Number 1: LTC2903CS6-E1#TRPBF-ND; Packing: Tape and Reel; RoHS: TRUE; Mounting Technology: Surface Mount; Code_JEDEC: MO-193; ComponentLink1Description: Manufacturer URL; ComponentLink1URL: http://www.linear.com/; ComponentLink2Description: Datasheet; ComponentLink2URL: http://cds.linear.com/docs/en/datasheet/29031fa.pdf; ComponentLink3Description: Package Specification; ComponentLink3URL: http://cds.linear.com/docs/en/packaging/SOT_6_05-08-1636.pdf
footprint LT-S6-6-TSOT-23_N (SOT23, 6-Leads, Body 2.9x1.75mm, Pitch 0.95mm, IPC Medium Density)
footprint LT-S6-6-TSOT-23_L (SOT23, 6-Leads, Body 2.9x1.75mm, Pitch 0.95mm, IPC High Density)
footprint LT-S6-6-TSOT-23_M (SOT23, 6-Leads, Body 2.9x1.75mm, Pitch 0.95mm, IPC Low Density)
pins: 1 V1 (in) "Voltage Input 1. Internal VCC is generated from the greater voltage on the V1 and V2 inputs. VCC = V1 for options D1 and E1. Bypass this pin to ground with a 0.1uF (or greater) capacitor.", 2 GND (power) "Ground.", 3 V2 (in) "Voltage Input 2. Internal VCC is generated from the greater voltage on the V1 and V2 inputs. VCC = V1 for options D1 and E1. For option A1, B1, C1 bypass this pin to ground with a 0.1uF (or greater) capacitor. V2 is an (See Datasheet)", 4 V3 (in) "Voltage Input 3. This input assists the R\S\T\ pulldown circuitry below 1V (for options A1, B1 and C1 only). V3 is an adjustable input for options D1 and E1. See Table 1b for recommended ADJ resistor values.", 5 V4 (in) "Voltage Input 4. Table 1 lists the recommended ADJ resistor values for options A1, B1 and C1. See Table 1b for options D1 and E1.", 6 ~{RST} (oc) "Reset Logic Output. Pulls low when any voltage input is below reset threshold and held low for 200ms after all voltage inputs exceed threshold. The pin contains a weak pull-up to V2 (V1 for options D1 and E1). Use an (See Datasheet)"

## LTC2903IS6-A1
designator U?
Precision Quad Supply Monitor, 6-pin SOT23 (S6-6), -40 to 85 degC; Manufacturer: Linear Technology; PartNumber: LTC2903IS6-A1; Number of Supplies(#): 4; PackageVersion: Jun-10; PackageReference: S6-6; PackageDescription: 6-Pin Plastic TSOT-23, Body 2.9 x 1.63 mm, Pitch 0.95 mm; Supplier 1: Newark; Supplier Part Number 1: 74R7461; RoHS: FALSE; Mounting Technology: Surface Mount; Code_JEDEC: MO-193; ComponentLink1Description: Manufacturer URL; ComponentLink1URL: http://www.linear.com/; ComponentLink2Description: Datasheet; ComponentLink2URL: http://cds.linear.com/docs/en/datasheet/29031fa.pdf; ComponentLink3Description: Package Specification; ComponentLink3URL: http://cds.linear.com/docs/en/packaging/SOT_6_05-08-1636.pdf
footprint LT-S6-6-TSOT-23_N (SOT23, 6-Leads, Body 2.9x1.75mm, Pitch 0.95mm, IPC Medium Density)
footprint LT-S6-6-TSOT-23_L (SOT23, 6-Leads, Body 2.9x1.75mm, Pitch 0.95mm, IPC High Density)
footprint LT-S6-6-TSOT-23_M (SOT23, 6-Leads, Body 2.9x1.75mm, Pitch 0.95mm, IPC Low Density)
pins: 1 V1 (in) "Voltage Input 1. Internal VCC is generated from the greater voltage on the V1 and V2 inputs. VCC = V1 for options D1 and E1. Bypass this pin to ground with a 0.1uF (or greater) capacitor.", 2 GND (power) "Ground.", 3 V2 (in) "Voltage Input 2. Internal VCC is generated from the greater voltage on the V1 and V2 inputs. VCC = V1 for options D1 and E1. For option A1, B1, C1 bypass this pin to ground with a 0.1uF (or greater) capacitor. V2 is an (See Datasheet)", 4 V3 (in) "Voltage Input 3. This input assists the R\S\T\ pulldown circuitry below 1V (for options A1, B1 and C1 only). V3 is an adjustable input for options D1 and E1. See Table 1b for recommended ADJ resistor values.", 5 V4 (in) "Voltage Input 4. Table 1 lists the recommended ADJ resistor values for options A1, B1 and C1. See Table 1b for options D1 and E1.", 6 ~{RST} (oc) "Reset Logic Output. Pulls low when any voltage input is below reset threshold and held low for 200ms after all voltage inputs exceed threshold. The pin contains a weak pull-up to V2 (V1 for options D1 and E1). Use an (See Datasheet)"

## LTC2903IS6-A1#PBF
designator U?
Precision Quad Supply Monitor, 6-pin SOT23 (S6-6), -40 to 85 degC, Pb-Free; Manufacturer: Linear Technology; PartNumber: LTC2903IS6-A1#PBF; Number of Supplies(#): 4; PackageVersion: Jun-10; PackageReference: S6-6; PackageDescription: 6-Pin Plastic TSOT-23, Body 2.9 x 1.63 mm, Pitch 0.95 mm; Supplier 1: Farnell; Supplier Part Number 1: 2295406; RoHS: TRUE; Mounting Technology: Surface Mount; Code_JEDEC: MO-193; ComponentLink1Description: Manufacturer URL; ComponentLink1URL: http://www.linear.com/; ComponentLink2Description: Datasheet; ComponentLink2URL: http://cds.linear.com/docs/en/datasheet/29031fa.pdf; ComponentLink3Description: Package Specification; ComponentLink3URL: http://cds.linear.com/docs/en/packaging/SOT_6_05-08-1636.pdf
footprint LT-S6-6-TSOT-23_N (SOT23, 6-Leads, Body 2.9x1.75mm, Pitch 0.95mm, IPC Medium Density)
footprint LT-S6-6-TSOT-23_L (SOT23, 6-Leads, Body 2.9x1.75mm, Pitch 0.95mm, IPC High Density)
footprint LT-S6-6-TSOT-23_M (SOT23, 6-Leads, Body 2.9x1.75mm, Pitch 0.95mm, IPC Low Density)
pins: 1 V1 (in) "Voltage Input 1. Internal VCC is generated from the greater voltage on the V1 and V2 inputs. VCC = V1 for options D1 and E1. Bypass this pin to ground with a 0.1uF (or greater) capacitor.", 2 GND (power) "Ground.", 3 V2 (in) "Voltage Input 2. Internal VCC is generated from the greater voltage on the V1 and V2 inputs. VCC = V1 for options D1 and E1. For option A1, B1, C1 bypass this pin to ground with a 0.1uF (or greater) capacitor. V2 is an (See Datasheet)", 4 V3 (in) "Voltage Input 3. This input assists the R\S\T\ pulldown circuitry below 1V (for options A1, B1 and C1 only). V3 is an adjustable input for options D1 and E1. See Table 1b for recommended ADJ resistor values.", 5 V4 (in) "Voltage Input 4. Table 1 lists the recommended ADJ resistor values for options A1, B1 and C1. See Table 1b for options D1 and E1.", 6 ~{RST} (oc) "Reset Logic Output. Pulls low when any voltage input is below reset threshold and held low for 200ms after all voltage inputs exceed threshold. The pin contains a weak pull-up to V2 (V1 for options D1 and E1). Use an (See Datasheet)"

## LTC2903IS6-A1#TR
designator U?
Precision Quad Supply Monitor, 6-pin SOT23 (S6-6), -40 to 85 degC, Tape and Reel; Manufacturer: Linear Technology; PartNumber: LTC2903IS6-A1#TR; Number of Supplies(#): 4; PackageVersion: Jun-10; PackageReference: S6-6; PackageDescription: 6-Pin Plastic TSOT-23, Body 2.9 x 1.63 mm, Pitch 0.95 mm; Supplier 1: Digi-Key; Supplier Part Number 1: LTC2903IS6-A1#TR-ND; Packing: Tape and Reel; RoHS: FALSE; Mounting Technology: Surface Mount; Code_JEDEC: MO-193; ComponentLink1Description: Manufacturer URL; ComponentLink1URL: http://www.linear.com/; ComponentLink2Description: Datasheet; ComponentLink2URL: http://cds.linear.com/docs/en/datasheet/29031fa.pdf; ComponentLink3Description: Package Specification; ComponentLink3URL: http://cds.linear.com/docs/en/packaging/SOT_6_05-08-1636.pdf
footprint LT-S6-6-TSOT-23_N (SOT23, 6-Leads, Body 2.9x1.75mm, Pitch 0.95mm, IPC Medium Density)
footprint LT-S6-6-TSOT-23_L (SOT23, 6-Leads, Body 2.9x1.75mm, Pitch 0.95mm, IPC High Density)
footprint LT-S6-6-TSOT-23_M (SOT23, 6-Leads, Body 2.9x1.75mm, Pitch 0.95mm, IPC Low Density)
pins: 1 V1 (in) "Voltage Input 1. Internal VCC is generated from the greater voltage on the V1 and V2 inputs. VCC = V1 for options D1 and E1. Bypass this pin to ground with a 0.1uF (or greater) capacitor.", 2 GND (power) "Ground.", 3 V2 (in) "Voltage Input 2. Internal VCC is generated from the greater voltage on the V1 and V2 inputs. VCC = V1 for options D1 and E1. For option A1, B1, C1 bypass this pin to ground with a 0.1uF (or greater) capacitor. V2 is an (See Datasheet)", 4 V3 (in) "Voltage Input 3. This input assists the R\S\T\ pulldown circuitry below 1V (for options A1, B1 and C1 only). V3 is an adjustable input for options D1 and E1. See Table 1b for recommended ADJ resistor values.", 5 V4 (in) "Voltage Input 4. Table 1 lists the recommended ADJ resistor values for options A1, B1 and C1. See Table 1b for options D1 and E1.", 6 ~{RST} (oc) "Reset Logic Output. Pulls low when any voltage input is below reset threshold and held low for 200ms after all voltage inputs exceed threshold. The pin contains a weak pull-up to V2 (V1 for options D1 and E1). Use an (See Datasheet)"